# EAGLE library part CONNECTOR (library WavefrontLBR)
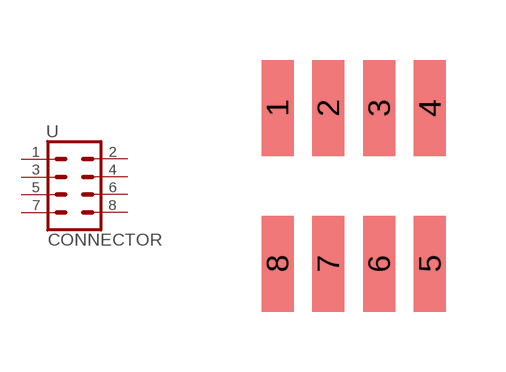
[diagram p1: symbol with the pads of 8PINSMD; footprint 8PINSMD]

Designator prefix -

## CONNECTOR  [8PINSMD]
1  1  pas
2  2  pas
3  3  pas
4  4  pas
5  5  pas
6  6  pas
7  7  pas
8  8  pas

## Footprint 8PINSMD (pad centres in mm)
smd 0.8 x 2.4: 1 -1.905,1.95; 2 -0.635,1.95; 3 0.635,1.95; 4 1.905,1.95; 5 1.905,-1.95; 6 0.635,-1.95; 7 -0.635,-1.95; 8 -1.905,-1.95